# EAGLE library part MIKROE_CLICK (library Boards)
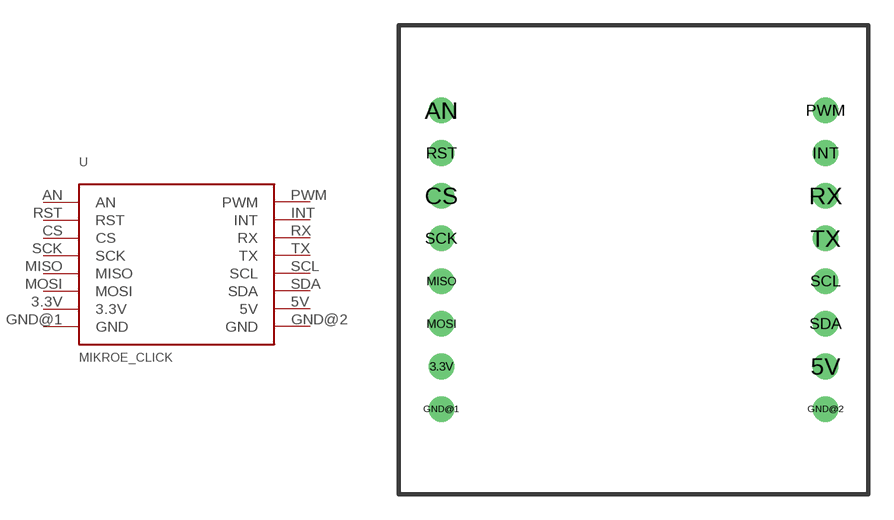
[diagram p3: symbol with the pads of MIKROE_CLICK; footprint MIKROE_CLICK]

Designator prefix -

## MIKROE_CLICK  [MIKROE_CLICK]
3.3V  3.3V  pwr
5V  5V  pwr
AN  AN
CS  CS
GND@1  GND  pwr
GND@2  GND  pwr
INT  INT
MISO  MISO
MOSI  MOSI
PWM  PWM
RST  RST
RX  RX
SCK  SCK
SCL  SCL
SDA  SDA
TX  TX

## Footprint MIKROE_CLICK (pad centres in mm)
drill 1.016: 3.3V -11.43,-6.35; 5V 11.43,-6.35; AN -11.43,8.89; CS -11.43,3.81; GND@1 -11.43,-8.89; GND@2 11.43,-8.89; INT 11.43,6.35; MISO -11.43,-1.27; MOSI -11.43,-3.81; PWM 11.43,8.89; RST -11.43,6.35; RX 11.43,3.81; SCK -11.43,1.27; SCL 11.43,-1.27; SDA 11.43,-3.81; TX 11.43,1.27